# EAGLE library part ACJS-MHDR (library carrilib)
1/4" Stereo Input Manufacturer: Amphenol Audio Part Number: ACJS-MHDR
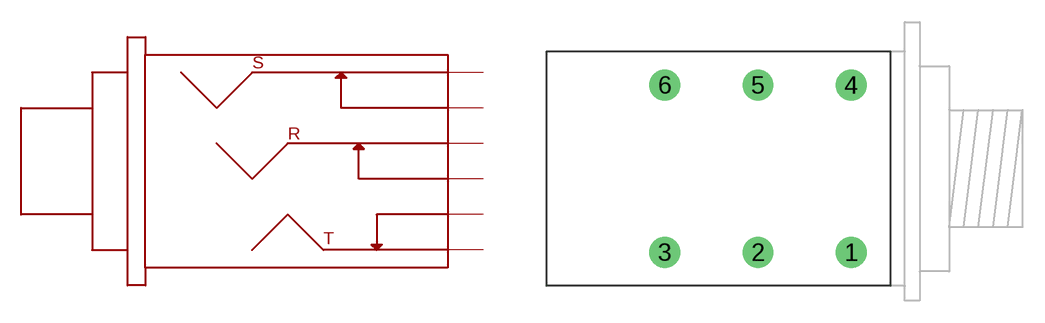
[diagram p25: symbol with the pads of ACJS-MHDR; footprint ACJS-MHDR]

Designator prefix CON

## ACJS-MHDR  [ACJS-MHDR]
1  S
2  R
3  T
4  S
5  R
6  T

## Footprint ACJS-MHDR (pad centres in mm)
drill 1.4: 1 6.35,-5.7; 2 0,-5.7; 3 -6.35,-5.7; 4 6.35,5.7; 5 0,5.7; 6 -6.35,5.7